# Altium schematic symbol library MAX31855KASA+T.SchLib: 1 symbol
Pins are listed as number, name and electrical type; pins without a type are passive.

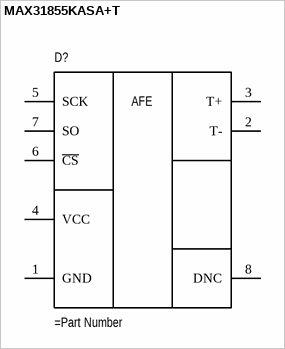
[diagram p0: symbol MAX31855KASA+T]

## MAX31855KASA+T
designator D?
pins: 1 GND, 2 T-, 3 T+, 4 VCC, 5 SCK, 6 ~{CS}, 7 SO, 8 DNC
text: AFE